# EAGLE library part OPA3690 (library kamiki)
Triple, Wideband, Voltage-Feedback OPERATILONAL AMPLIFIER With Disable
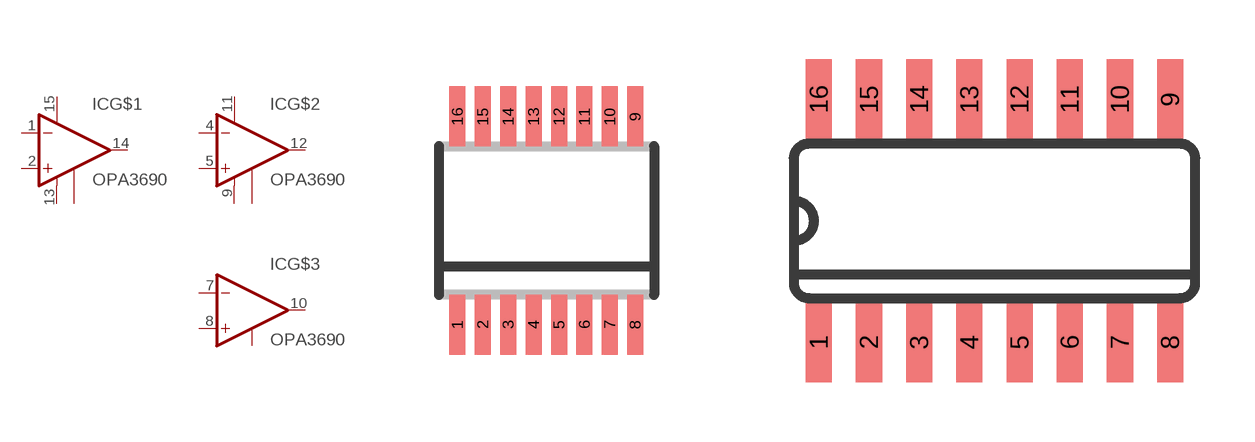
[diagram p25: symbol with the pads of 2QSP16; footprints 2QSP16, SO16]

Designator prefix IC; gates G$1=OP-AMP+-INH G$2=OP-AMP+-INH G$3=OP-AMP-INH

## OPA3690DRQ  [2QSP16]
1  G$1:-IN  in
2  G$1:+IN  in
3  G$2:-DISABLE  in
4  G$2:-IN  in
5  G$2:+IN  in
6  G$3:-DISABLE  in
7  G$3:-IN  in
8  G$3:+IN  in
9  G$2:V-  pwr
10  G$3:OUT  out
11  G$2:V+  pwr
12  G$2:OUT  out
13  G$1:V-  pwr
14  G$1:OUT  out
15  G$1:V+  pwr
16  G$1:-DISABLE  in

## OPA3690D  [SO16]
Pads as for 2QSP16

## Footprint 2QSP16 (pad centres in mm)
SSOP-16
smd 0.4 x 1.5: 1 -2.223,-2.6; 2 -1.588,-2.6; 3 -0.953,-2.6; 4 -0.318,-2.6; 5 0.318,-2.6; 6 0.953,-2.6; 7 1.588,-2.6; 8 2.223,-2.6; 9 2.223,2.6; 10 1.588,2.6; 11 0.953,2.6; 12 0.318,2.6; 13 -0.318,2.6; 14 -0.953,2.6; 15 -1.588,2.6; 16 -2.223,2.6

## Footprint SO16 (pad centres in mm)
Small Outline Package
smd 0.66 x 2.032: 1 -4.445,-3.073; 2 -3.175,-3.073; 3 -1.905,-3.073; 4 -0.635,-3.073; 5 0.635,-3.073; 6 1.905,-3.073; 7 3.175,-3.073; 8 4.445,-3.073; 9 4.445,3.073; 10 3.175,3.073; 11 1.905,3.073; 12 0.635,3.073; 13 -0.635,3.073; 14 -1.905,3.073; 15 -3.175,3.073; 16 -4.445,3.073